# Altium schematic symbol library default.SchLib: 1 symbol
Pins are listed as number, name and electrical type; pins without a type are passive.

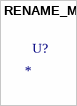
[diagram p0: symbol RENAME_ME]

## RENAME_ME
designator U?